# Altium footprint library PCB - LEADED - SOT - MAXIM SC-70-5 X5-1.PcbLib: 1 footprints
Each footprint in its own frame and in the unit in brackets; x right, y up, seen from the top. Pads: shape width x height; smd on the part's side, far side on the other; paste and mask are expansions set on the pad; w line width, h text height; cw(c..) or ccw(c..) is an arc to the next point about the centre after c.
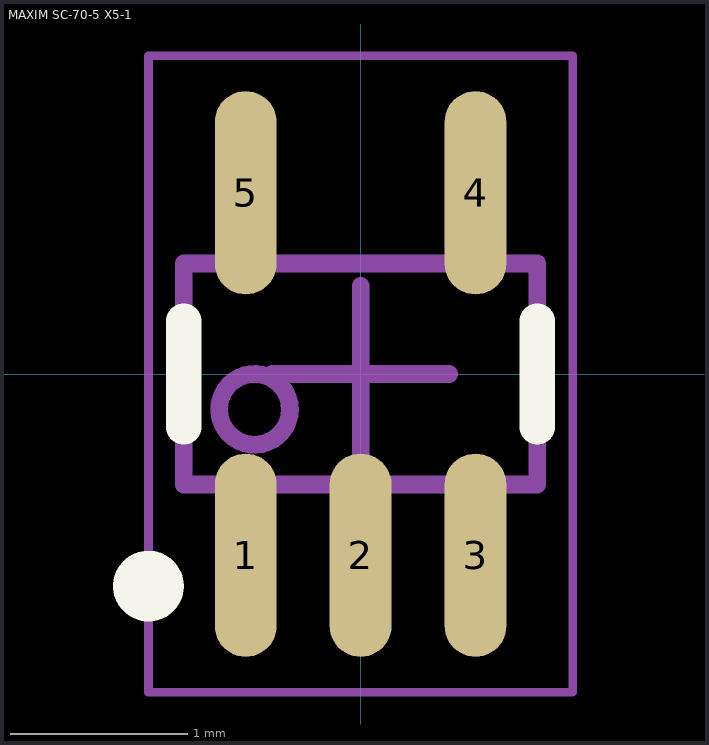
[diagram p0: the footprint, top view; thin cyan lines are the x and y axes]

## MAXIM SC-70-5 X5-1 [mm] "Temperature Sensor Analog, Local -55°C ~ 125°C 11.9mV/°C, 5 Leads, Body 1.25x2.2 Pitch 0.65mm, Package SOT-353,SC70-X5-1, 5-TSSOP"
height 1.1
pads (5):
  oval 0.35x1.15 smd: 1(-0.65,-1.025) 2(0,-1.025) 3(0.65,-1.025) 4(0.65,1.025) 5(-0.65,1.025)
Top Overlay:
  circle w0.2: c-1.2,-1.2 r0.1
  lines w0.2: -1,-0.3 -1,0.3 ; 1,-0.3 1,0.3
Mechanical 13:
  circle w0.1: c-0.6,-0.2 r0.2
  lines w0.1: -1,-0.625 -1,0.625 1,0.625 1,-0.625 -1,-0.625
Mechanical 15:
  lines w0.05: -1.2,-1.8 -1.2,1.8 1.2,1.8 1.2,-1.8 -1.2,-1.8
Mechanical 2 (Mech9):
  lines w0.1: -0.5,0 0,0 ; 0,-0.5 0,0 ; 0,0.5 0,0 ; 0.5,0 0,0
3D body "Maxim - SC-70-5 X5-1 v3.step": height 1.1, standoff 0, extent -0.999,-1.1 0.999,1.1